# Altium footprint library lab_02.PcbLib: 3 footprints
Each footprint in its own frame and in the unit in brackets; x right, y up, seen from the top. Pads: shape width x height; smd on the part's side, far side on the other; paste and mask are expansions set on the pad; w line width, h text height; cw(c..) or ccw(c..) is an arc to the next point about the centre after c.
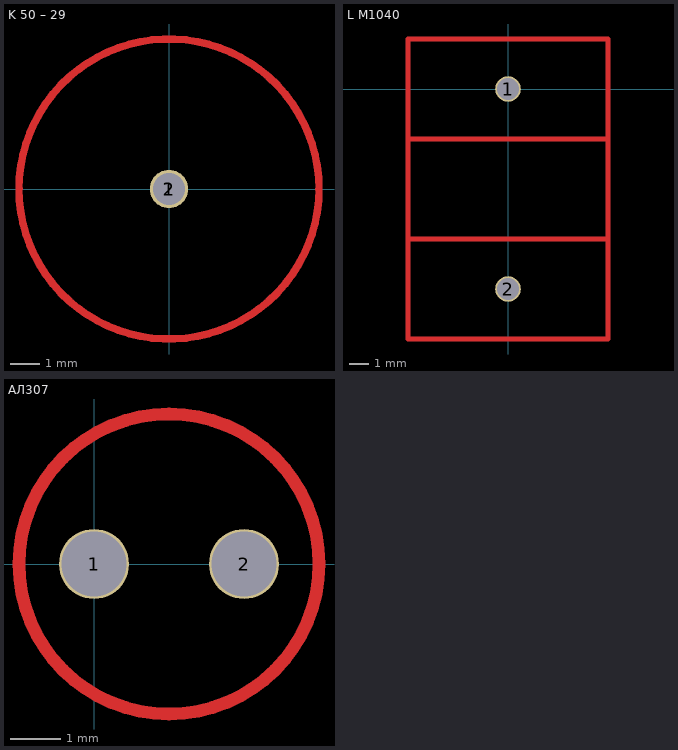
[diagram p0: the footprints below, top view; thin cyan lines are the x and y axes]

## K 50 – 29 [mm]
pads (2):
  round 1.3 hole 1.1: 1(0,0) 2(0,0)
Top Layer:
  circle w0.254: c0,0 r5.08

## L M1040 [mm]
pads (2):
  round 1.3 hole 1.1: 1(0,0) 2(0,-10.16)
Top Layer:
  lines w0.254: -5.08,-7.62 5.08,-7.62 ; -5.08,-2.54 5.08,-2.54 ; -5.08,-12.7 5.08,-12.7 5.08,2.54 -5.08,2.54 -5.08,-12.7

## АЛ307 [mm]
pads (2):
  round 1.4 hole 1.3: 1(0,0) 2(3,0)
Top Layer:
  lines w0.254: 1.5,-3 ccw(c1.5,0) 1.5,3 ccw(c1.5,0) 1.5,-3